# Altium schematic symbol library DipSwitch.SchLib: 2 symbols
Pins are listed as number, name and electrical type; pins without a type are passive.

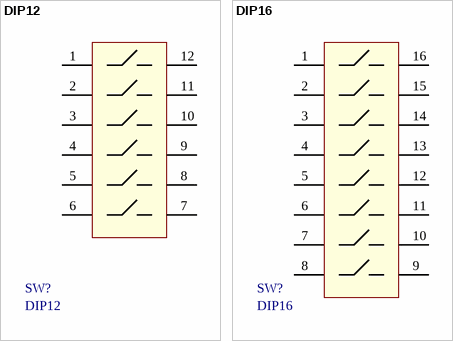
[diagram p0: symbols DIP12 to DIP16]

## DIP12
designator SW?
footprint DIP12
pins: 1, 2, 3, 4, 5, 6, 7, 8, 9, 10, 11, 12

## DIP16
designator SW?
footprint DIP16
pins: 1, 2, 3, 4, 5, 6, 7, 8, 9, 10, 11, 12, 13, 14, 15, 16